# Altium schematic symbol library 5518.SchLib: 1 symbol
Pins are listed as number, name and electrical type; pins without a type are passive.

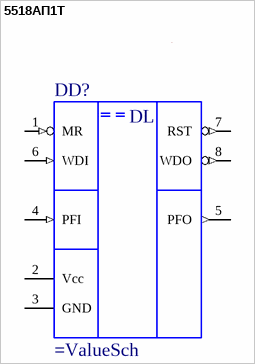
[diagram p0: symbol 5518АП1Т]

## 5518АП1Т
designator DD?
Супервизор питания 5В
pins: 1 MR (in) "Manual Reset", 2 Vcc (power), 3 GND (power), 4 PFI (in) "Power Fail Input", 5 PFO (out) "Power Fail Output", 6 WDI (in) "WathDog Input", 7 RST (out) "WathDog Input", 8 WDO (out)
text: DL